# EAGLE library part TINY412 (library JLB6_Processor)
MICROCONTROLLER ATtiny412 2 or 4 Kbytes ROM
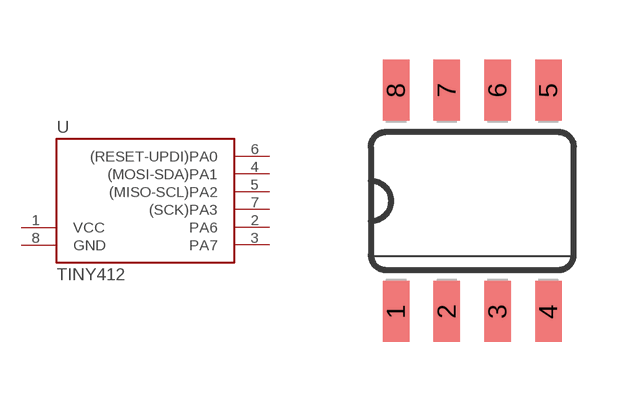
[diagram p45: symbol with the pads of SO08; footprint SO08]

Designator prefix U

## TINY412  [SO08]
1  VCC  pwr
2  PA6
3  PA7
4  (MOSI-SDA)PA1
5  (MISO-SCL)PA2
6  (RESET-UPDI)PA0
7  (SCK)PA3
8  GND  pwr

## Footprint SO08 (pad centres in mm)
Small Outline Package
smd 0.66 x 1.524: 1 -1.905,-2.769; 2 -0.635,-2.769; 3 0.635,-2.769; 4 1.905,-2.769; 5 1.905,2.769; 6 0.635,2.769; 7 -0.635,2.769; 8 -1.905,2.769